# Altium schematic symbol library cap_0689x0217.SchLib: 1 symbol
Pins are listed as number, name and electrical type; pins without a type are passive.

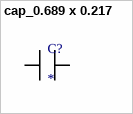
[diagram p0: symbol cap_0.689 x 0.217]

## cap_0.689 x 0.217
designator C?
0.22 uF Capacitor, Film, 250VAC, 20%; Manufacturer: Panasonic; Manufactured Part Number: STD; Tolerance: 20%; Package Size: 0.689 x 0.217; Voltage Rating: 250VAC
pins: 1, 2  